# Altium footprint library TS3USB221_RSE_10.PcbLib: 1 footprints
Each footprint in its own frame and in the unit in brackets; x right, y up, seen from the top. Pads: shape width x height; smd on the part's side, far side on the other; paste and mask are expansions set on the pad; w line width, h text height; cw(c..) or ccw(c..) is an arc to the next point about the centre after c.
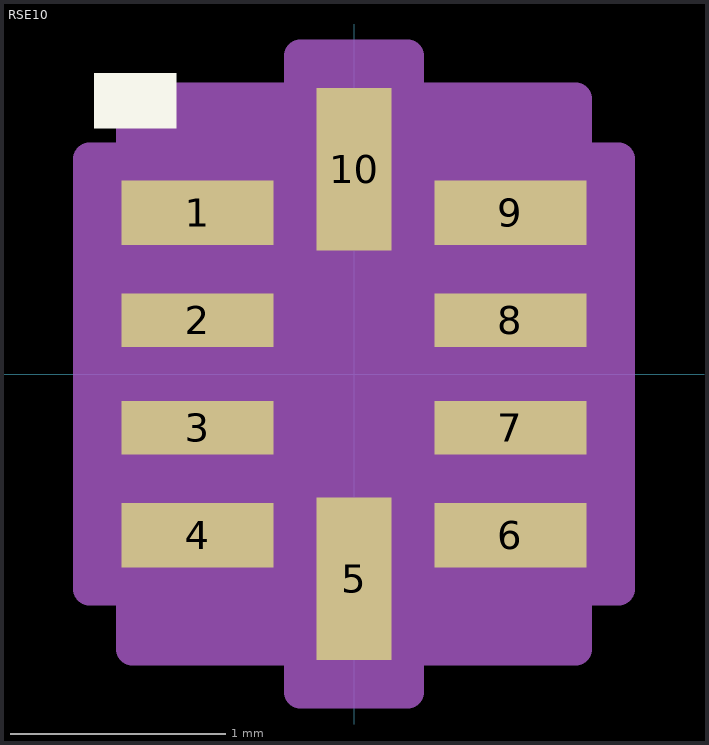
[diagram p0: the footprint, top view; thin cyan lines are the x and y axes]

## RSE10 [mm]
pads (10):
  rect 0.705x0.3 smd: 1(-0.727,0.75) 4(-0.727,-0.75) 6(0.727,-0.75) 9(0.727,0.75)
  rect 0.705x0.25 smd: 2(-0.727,0.25) 3(-0.727,-0.25) 7(0.727,-0.25) 8(0.727,0.25)
  rect 0.35x0.755 smd: 5(0,-0.952) 10(0,0.952)
Top Overlay:
  region: -0.826,1.143 -1.206,1.143 -1.206,1.397 -0.826,1.397
Mechanical 15:
  region: -0.25,-1.279 -1.029,-1.279 -1.029,-1 -1.229,-1 -1.229,1 -1.029,1 -1.029,1.279 -0.25,1.279 -0.25,1.479 0.25,1.479 0.25,1.279 1.029,1.279 1.029,1 1.229,1 1.229,-1 1.029,-1 1.029,-1.279 0.25,-1.279 0.25,-1.479 -0.25,-1.479
  lines w0.152: -1.229,-1 -1.229,1 -1.029,1 -1.029,1.279 -0.25,1.279 -0.25,1.479 0.25,1.479 0.25,1.279 1.029,1.279 1.029,1 1.229,1 1.229,-1 1.029,-1 1.029,-1.279 0.25,-1.279 0.25,-1.479 -0.25,-1.479 -0.25,-1.279 -1.029,-1.279 -1.029,-1 -1.229,-1
3D body: height 0.25, standoff 0, extent 0,0 0.254,0.254